# EAGLE library part 62531620621 (library Wire_to_Board_Connectors_rev15d)
WR-BHD 2.00mm Male SMT Box Header High Temperature, 16 Pins=>Code : Con_WTB_BHD_2.00_Male_SMT_62531620621 <http://katalog.we-online.de/media/thumbs2/eican/thb_Con_WTB_BHD_2.00_Male_SMT_6253xx20621_pf2.jpg> Details see: http://katalog.we-online.de/en/em/625_3xx_206_21 Created 2014-06-05, Karrer Zheng 2014 (C) Würth Elektronik
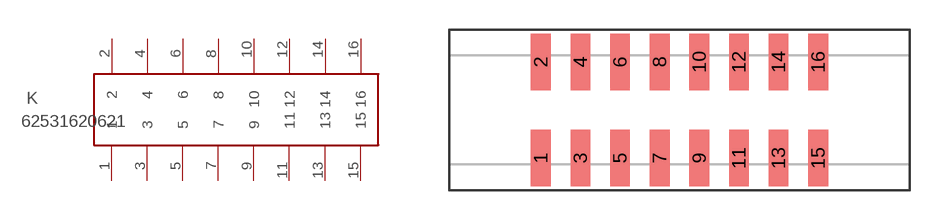
[diagram p267: symbol with the pads of 62531620621; footprint 62531620621]

Designator prefix K

## 62531620621  [62531620621]
1  1  pas
2  2  pas
3  3  pas
4  4  pas
5  5  pas
6  6  pas
7  7  pas
8  8  pas
9  9  pas
10  10  pas
11  11  pas
12  12  pas
13  13  pas
14  14  pas
15  15  pas
16  16  pas

## Footprint 62531620621 (pad centres in mm)
WRBHD-2.00mm Male SMT Box Header High Temperature,16 pins
smd 1 x 2.85: 1 -6,-2.425; 2 -6,2.425; 3 -4,-2.425; 4 -4,2.425; 5 -2,-2.425; 6 -2,2.425; 7 0,-2.425; 8 0,2.425; 9 2,-2.425; 10 2,2.425; 11 4,-2.425; 12 4,2.425; 13 6,-2.425; 14 6,2.425; 15 8,-2.425; 16 8,2.425